# Altium footprint library 5V稳压.PcbLib: 4 footprints
Each footprint in its own frame and in the unit in brackets; x right, y up, seen from the top. Pads: shape width x height; smd on the part's side, far side on the other; paste and mask are expansions set on the pad; w line width, h text height; cw(c..) or ccw(c..) is an arc to the next point about the centre after c.
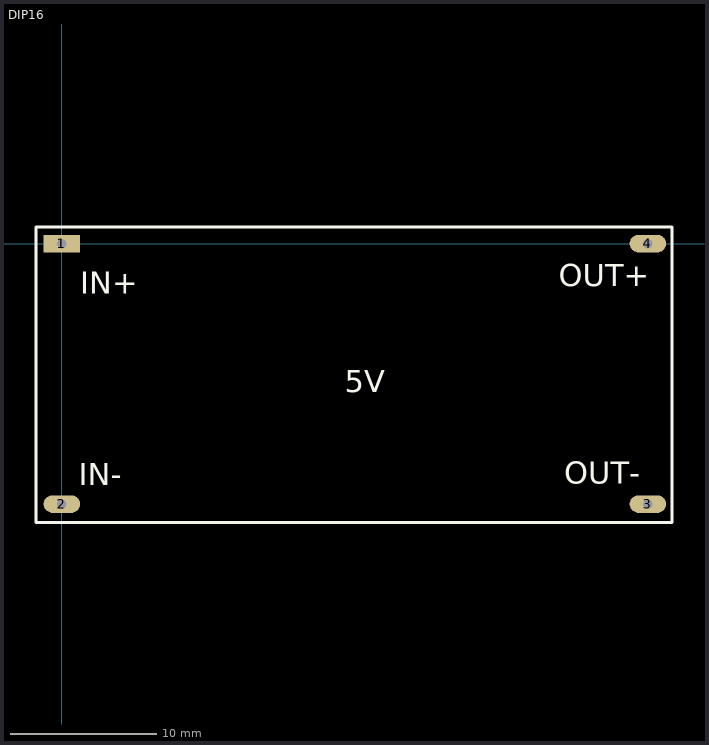
[diagram p0: the footprints below, top view; thin cyan lines are the x and y axes]

## DIP4 [mm]

## DIP8 [mm]

## DIP16 [mm]
pads (4):
  rect 2.5x1.2 hole 0.64: 1(0,0)
  oval 2.5x1.2 hole 0.64: 2(0,-17.78) 3(40,-17.78) 4(40,0)
Top Overlay:
  lines w0.2: -1.778,-19.05 41.656,-19.05 41.656,1.143 -1.778,1.143 -1.778,-19.05
  text "OUT-" at 34.291,-16.383 h1.52
  text "OUT+" at 33.91,-2.921 h1.52
  text "5V" at 19.304,-10.16 h1.52
  text "IN-" at 1.144,-16.51 h1.52
  text "IN+" at 1.271,-3.429 h1.52

## PCBComponent_1 [mm]